# Altium footprint library adafruit.PCBLIB: 643 footprints (part 8 of 41)
Each footprint in its own frame and in the unit in brackets; x right, y up, seen from the top. Pads: shape width x height; smd on the part's side, far side on the other; paste and mask are expansions set on the pad; w line width, h text height; cw(c..) or ccw(c..) is an arc to the next point about the centre after c.
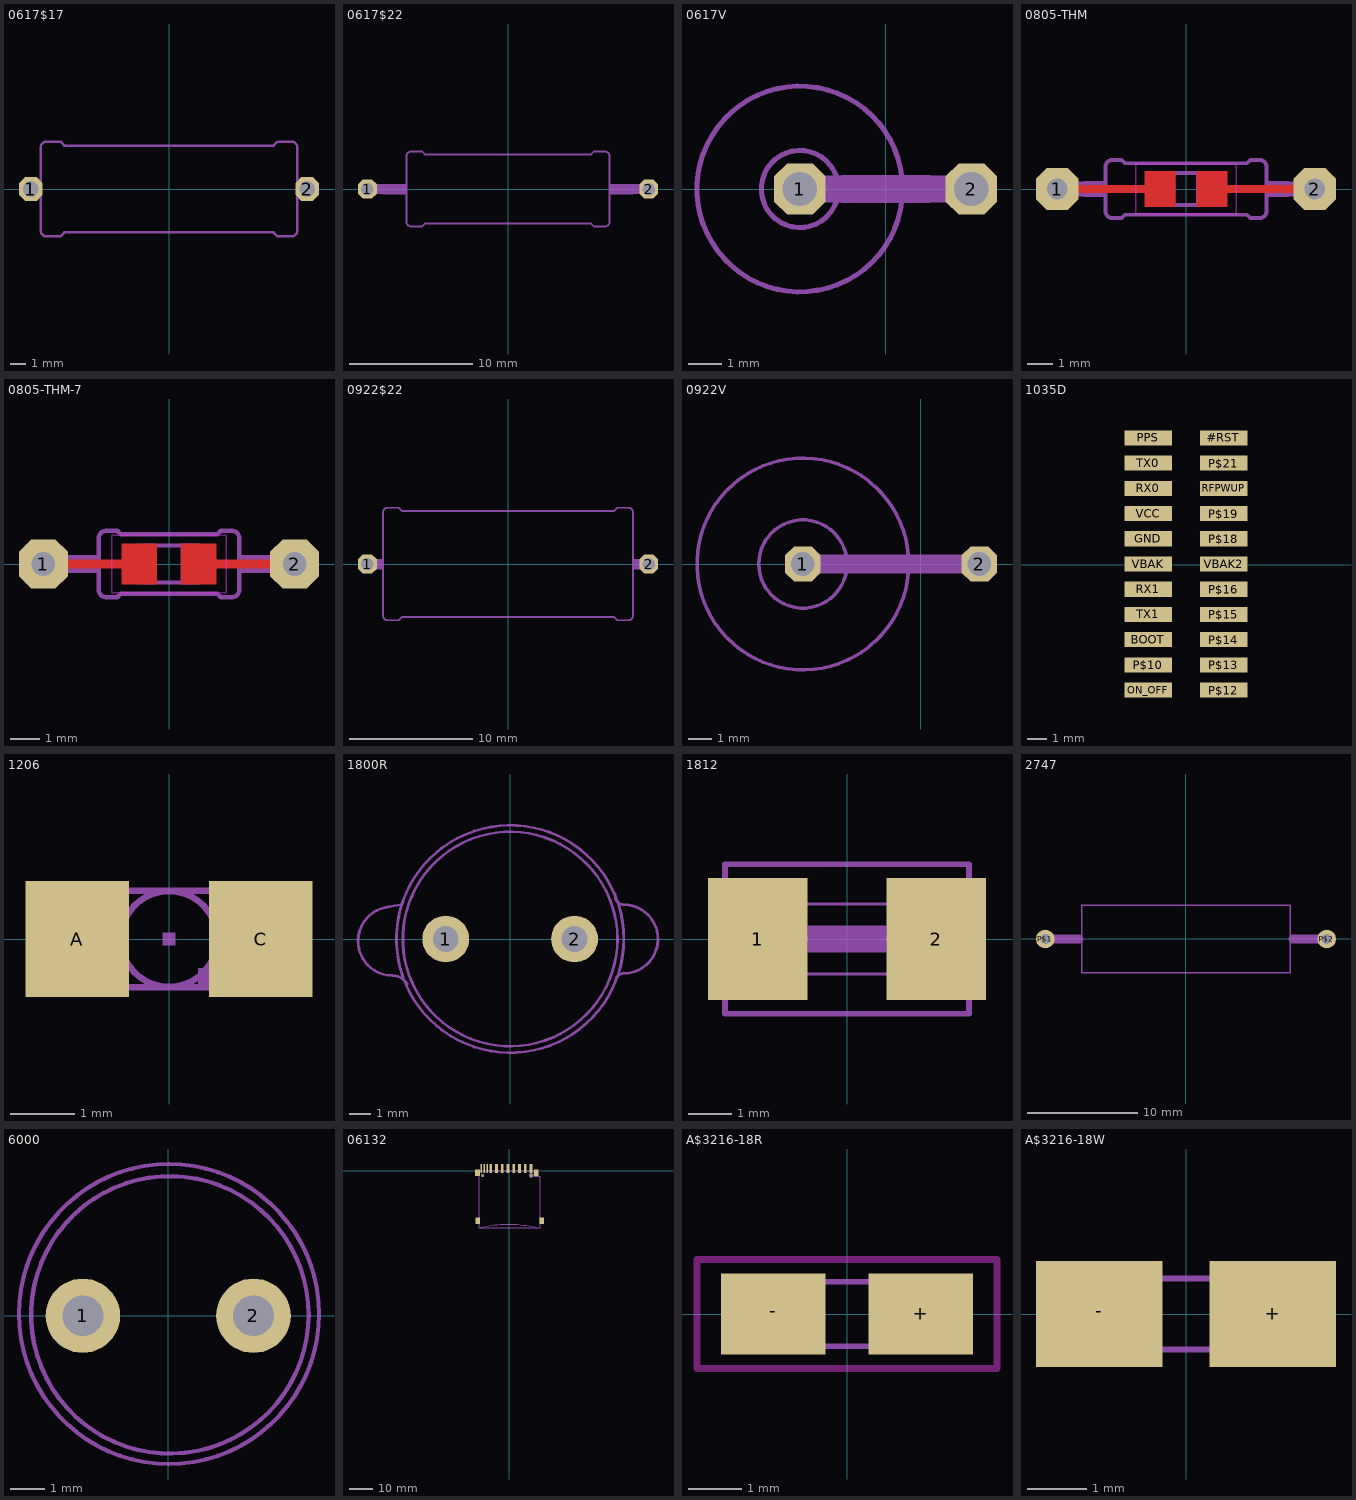
[diagram p7: the footprints below, top view; thin cyan lines are the x and y axes]

## 0617$17 [mil]
pads (2):
  oct 60x60 / inner round 55.43 / far side oct 60x60 hole 40: 1(-350,0) 2(350,0)
tDocu:
  region: -336,-16 -336,16 -324,16 -324,-16
  region: 324,-16 324,16 336,16 336,-16
  lines w6: -325,-40 -325,40 ; 325,-40 325,40
  lines w32: -350,0 -340,0 ; 340,0 350,0
tPlace:
  lines w6: -325,-40 -325,-105 ccw(c-310,-105) -310,-120 -275,-120 -265,-110 265,-110 275,-120 310,-120 ccw(c310,-105) 325,-105 325,-40 ; -325,40 -325,105 cw(c-310,105) -310,120 -275,120 -265,110 265,110 275,120 310,120 cw(c310,105) 325,105 325,40

## 0617$22 [mil]
pads (2):
  oct 60x60 / inner round 55.43 / far side oct 60x60 hole 40: 1(-450,0) 2(450,0)
tDocu:
  lines w32: -450,0 -405,0 ; 405,0 450,0
tPlace:
  region: -401,-16 -401,16 -325,16 -325,-16
  region: 325,-16 325,16 401,16 401,-16
  lines w6: -325,-105 -325,105 cw(c-310,105) -310,120 -275,120 -265,110 265,110 275,120 310,120 cw(c310,105) 325,105 325,-105 cw(c310,-105) 310,-120 275,-120 265,-110 -265,-110 -275,-120 -310,-120 cw(c-310,-105) -325,-105

## 0617V [mil]
pads (2):
  oct 60x60 / inner round 55.43 / far side oct 60x60 hole 40: 1(-100,0) 2(100,0)
tDocu:
  circle w6: c-100,0 r45
  lines w32: -100,0 -50,0 ; 50,0 100,0
tPlace:
  circle w6: c-100,0 r120
  region: -52,-16 -52,16 52,16 52,-16

## 0805-THM [mil]
pads (2):
  oct 66x66 / inner round 60.98 / far side oct 66x66 hole 32: 1(-200,0) 2(200,0)
Top:
  region: -63.99,-27.56 -63.99,27.56 -16.75,27.56 -16.75,-27.56
  region: 16.75,-27.56 16.75,27.56 63.99,27.56 63.99,-27.56
  lines w12: -177.17,0 -43.31,0 ; 39.37,0 200.79,0
Top keep-out:
  lines w2: -77.68,-38.7 77.68,-38.7 77.68,38.7 -77.68,38.7 -77.68,-38.7
Top Paste:
  region: -63.99,-27.56 -63.99,27.56 -16.75,27.56 -16.75,-27.56
  region: 16.75,-27.56 16.75,27.56 63.99,27.56 63.99,-27.56
Top Solder:
  region: -67.93,-31.5 -67.93,31.5 -12.81,31.5 -12.81,-31.5
  region: 12.81,-31.5 12.81,31.5 67.93,31.5 67.93,-31.5
tDocu:
  lines w6: -16.14,-25 16.14,-25 ; -16.14,25 16.14,25
  lines w24: -200,0 -160,0 ; 160,0 200,0
tPlace:
  region: 125,-12 125,12 159,12 159,-12
  region: -159,-12 -159,12 -125,12 -125,-12
  region: 16,-27.5 16,27.62 41.59,27.62 41.59,-27.5
  region: -42,-27.5 -42,27.62 -16.41,27.62 -16.41,-27.5
  lines w6: -125,-35 ccw(c-115,-35) -115,-45 -100,-45 -95,-40 95,-40 100,-45 115,-45 ccw(c115,-35) 125,-35 125,35 ccw(c115,35) 115,45 100,45 95,40 -95,40 -100,45 -115,45 ccw(c-115,35) -125,35 -125,-35

## 0805-THM-7 [mil]
pads (2):
  oct 66x66 / inner round 60.98 / far side oct 66x66 hole 32: 1(-170,0) 2(170,0)
Top:
  region: -63.99,-27.56 -63.99,27.56 -16.75,27.56 -16.75,-27.56
  region: 16.75,-27.56 16.75,27.56 63.99,27.56 63.99,-27.56
  lines w12: -147.17,0 -43.31,0 ; 39.37,0 170.79,0
Top keep-out:
  lines w2: -77.68,-38.7 77.68,-38.7 77.68,38.7 -77.68,38.7 -77.68,-38.7
Top Paste:
  region: -64.57,-27.56 -64.57,27.95 -16.14,27.95 -16.14,-27.56
  region: 15.75,-27.56 15.75,27.56 64.57,27.56 64.57,-27.56
Top Solder:
  region: -67.93,-31.5 -67.93,31.5 -12.81,31.5 -12.81,-31.5
  region: 12.81,-31.5 12.81,31.5 67.93,31.5 67.93,-31.5
tDocu:
  lines w6: -16.14,-25 16.14,-25 ; -16.14,25 16.14,25
  lines w24: -170,0 -130,0 ; 130,0 170,0
tPlace:
  region: 95,-12 95,12 129,12 129,-12
  region: -129,-12 -129,12 -95,12 -95,-12
  region: 16,-27.5 16,27.62 41.59,27.62 41.59,-27.5
  region: -42,-27.5 -42,27.62 -16.41,27.62 -16.41,-27.5
  lines w6: -95,-35 ccw(c-85,-35) -85,-45 -70,-45 -65,-40 65,-40 70,-45 85,-45 ccw(c85,-35) 95,-35 95,35 ccw(c85,35) 85,45 70,45 65,40 -65,40 -70,45 -85,45 ccw(c-85,35) -95,35 -95,-35

## 0922$22 [mil]
pads (2):
  oct 60x60 / inner round 55.43 / far side oct 60x60 hole 40: 1(-450,0) 2(450,0)
tDocu:
  region: -422,-16 -422,16 -400,16 -400,-16
  region: 400,-16 400,16 422,16 422,-16
  lines w32: -450,0 -425,0 ; 425,0 450,0
tPlace:
  region: 400,-16 400,16 406,16 406,-16
  region: -406,-16 -406,16 -400,16 -400,-16
  lines w6: -400,-165 -400,165 cw(c-385,165) -385,180 -350,180 -340,170 340,170 350,180 385,180 cw(c385,165) 400,165 400,-165 cw(c385,-165) 385,-180 350,-180 340,-170 -340,-170 -350,-180 -385,-180 cw(c-385,-165) -400,-165

## 0922V [mil]
pads (2):
  oct 60x60 / inner round 55.43 / far side oct 60x60 hole 40: 1(-200,0) 2(100,0)
tDocu:
  lines w32: -200,0 -150,0 ; 55,0 100,0
tPlace:
  circle w6: c-200,0 r180
  circle w6: c-200,0 r75
  region: -150,-16 -150,16 52,16 52,-16
  text "0922" at -270,100 h62

## 1035D [mil]
pads (22):
  rect 94.49x29.92 smd: #RST(667.72,251.57) BOOT(517.72,-148.43) GND(517.72,51.57) ON_OFF(517.72,-248.43) P$10(517.72,-198.43) P$12(667.72,-248.43) P$13(667.72,-198.43) P$14(667.72,-148.43) P$15(667.72,-98.43) P$16(667.72,-48.43) P$18(667.72,51.57) P$19(667.72,101.57) P$21(667.72,201.57) PPS(517.72,251.57) RFPWUP(667.72,151.57) RX0(517.72,151.57) RX1(517.72,-48.43) TX0(517.72,201.57) TX1(517.72,-98.43) VBAK(517.72,1.57) VBAK2(667.72,1.57) VCC(517.72,101.57)
tPlace:
  text "A1035-D" at 433.07,-137.8 h42.5

## 1206 [mil]
pads (2):
  rect 62.99x70.98 smd: A(-55.98,0) C(55.98,0)
tDocu:
  region: 17.72,-27.56 17.72,-17.72 31.5,-17.72 31.5,-27.56
  region: 31.5,-27.56 31.5,19.69 35.43,19.69 35.43,-27.56
  region: 31.5,21.65 31.5,27.56 35.43,27.56 35.43,21.65
  region: -35.43,-27.56 -35.43,19.69 -31.5,19.69 -31.5,-27.56
  region: -35.43,21.65 -35.43,27.56 -31.5,27.56 -31.5,21.65
  lines w4: -21.65,-19.69 cw(c0.01,0) -21.65,19.69 ; 21.65,-19.69 ccw(c-0.01,0) 21.65,19.69 ; -61.02,-29.53 61.02,-29.53 61.02,29.53 -61.02,29.53 -61.02,-29.53
tPlace:
  region: -3.94,-3.94 -3.94,3.94 3.94,3.94 3.94,-3.94
  region: 17.72,-27.56 17.72,-17.72 23.62,-17.72 23.62,-27.56
  lines w4: -21.65,-19.69 ccw(c0,-0.01) 21.65,-19.69 ; -21.65,19.69 cw(c0,0.01) 21.65,19.69

## 1800R [mil]
pads (2):
  round 86 hole 47.24: 1(-118.11,0) 2(118.11,0)
tPlace:
  circle w5: c0,0 r196.85
  circle w5: c0,0 r208.66
  lines w5: -224.41,59.06 -200.79,62.99 ; -220.47,59.06 ccw(c-216.08,-3.86) -216.54,-66.93 cw(c-216.9,-99.55) -188.98,-82.68 ; 192.91,-78.74 cw(c208.66,-78.74) 208.66,-62.99 216.54,-62.99 ; 192.91,82.68 ccw(c208.78,79.23) 208.66,62.99 cw(c208.2,-0.08) 212.6,-62.99

## 1812 [mil]
pads (2):
  rect 90x110 smd: 1(-80.55,0) 2(80.55,0)
tDocu:
  lines w2.76: -62.99,-31.5 -62.99,31.5 ; 62.99,-31.5 62.99,31.5
  lines w5: -110.25,-67.37 -110.25,67.37 ; -90.55,0 94.49,0 ; -66.93,0 66.93,0 ; 110.25,-67.37 110.25,67.37
tPlace:
  region: -35.43,-11.81 -35.43,11.81 35.43,11.81 35.43,-11.81
  region: -23.62,-11.81 -23.62,11.81 19.69,11.81 19.69,-11.81
  lines w2.76: -62.99,-31.5 62.99,-31.5 ; -62.99,31.5 62.99,31.5
  lines w5: -110.25,-67.37 110.25,-67.37 ; -110.25,67.37 110.25,67.37

## 2747 [mil]
pads (2):
  round 66 hole 35.43: P$1(-500,0) P$2(500,0)
tPlace:
  lines w5: -370,-120 370,-120 370,120 -370,120 -370,-120
  lines w32: -490,0 -380,0 ; 380,0 490,0

## 6000 [mil]
pads (2):
  round 86 hole 47.24: 1(-98.43,0) 2(98.43,0)
tPlace:
  circle w5: c1,2 r173
  circle w5: c2,1 r160

## 06132 [mm]
pads (17):
  rect 1.2x4 smd: 1(6.9,0.9) 2(4.4,0.9) 3(1.9,0.9) 4(-0.6,0.9) 5(-3.1,0.9) 6(-5.6,0.9) 7(-8.1,0.9) 9(9.4,0.9)
  rect 0.7x4 smd: 8(-9.7,0.9) CD(-11,0.9) WP(-12.2,0.9)
  rect 2x2.8 smd: GP(-13.8,-21.8) GP2(14.1,-21.8) GP3(11.7,-0.9) GP4(-13.9,-1)
  round 1.1 hole 1.1 unplated: MH1(-11.6,-2.1)
  round 1.6 hole 1.6 unplated: MH2(9.5,-2.1)
tPlace:
  lines w0.127: -12.3,-25.1 12.2,-25.1 ; -12.3,-25.1 -13.2,-25.1 -13.2,0 10.6,0 10.6,-2.5 13.2,-2.5 13.3,-25.1 12.2,-25.1 ; -12.3,-25.1 -12.4,-24.8 cw(c-0.615,-75.53) 12,-25 12.2,-25.1

## A$3216-18R [mil]
pads (2):
  rect 76.77x59.06 smd: +(54.13,0) -(-54.13,0)
Top keep-out:
  lines w5: -110,-40 110,-40 110,40 -110,40 -110,-40
tDocu:
  region: -62.99,-23.62 -62.99,23.62 -58.07,23.62 -58.07,-23.62
  region: 58.07,-23.62 58.07,23.62 62.99,23.62 62.99,-23.62
  region: 31.5,-24.61 31.5,24.61 43.31,24.61 43.31,-24.61
  lines w4: -57.09,-23.62 57.09,-23.62 57.09,23.62 -57.09,23.62 -57.09,-23.62
tPlace:
  text "+" at 100,0 h34

## A$3216-18W [mil]
pads (2):
  rect 84.65x70.87 smd: +(58.07,0) -(-58.07,0)
tDocu:
  region: -62.99,-23.62 -62.99,23.62 -58.07,23.62 -58.07,-23.62
  region: 58.07,-23.62 58.07,23.62 62.99,23.62 62.99,-23.62
  region: 31.5,-24.61 31.5,24.61 43.31,24.61 43.31,-24.61
  lines w4: -57.09,-23.62 57.09,-23.62 57.09,23.62 -57.09,23.62 -57.09,-23.62